# EAGLE library part AY-3-8910 (library shock_own)
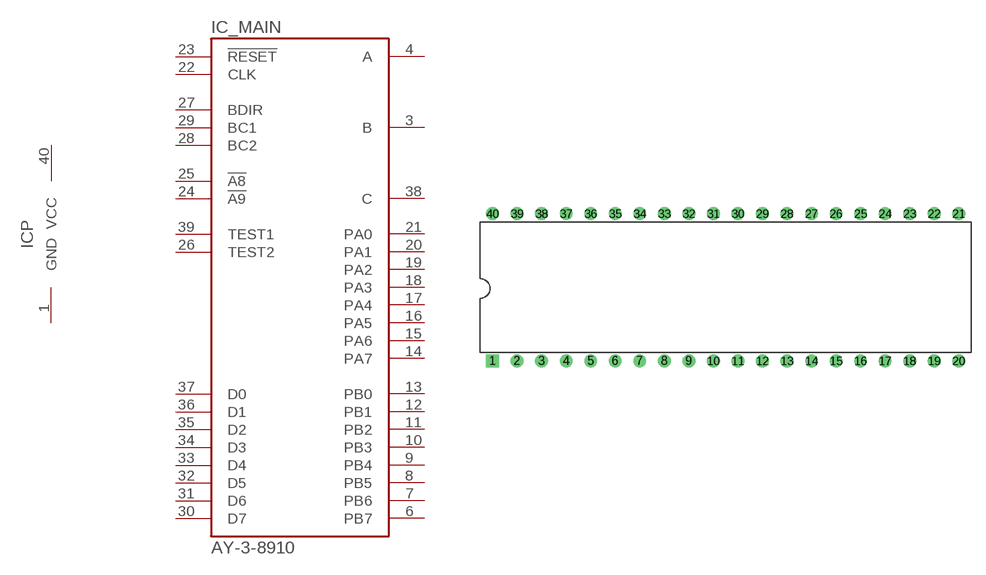
[diagram p1: symbol with the pads of DIP40; footprint DIP40]

Designator prefix IC; gates _MAIN=AY-3-8910 P=PWRGND

## AY-3-8910  [DIP40]
1  P:GND  pwr
3  _MAIN:B  out
4  _MAIN:A  out
6  _MAIN:PB7
7  _MAIN:PB6
8  _MAIN:PB5
9  _MAIN:PB4
10  _MAIN:PB3
11  _MAIN:PB2
12  _MAIN:PB1
13  _MAIN:PB0
14  _MAIN:PA7
15  _MAIN:PA6
16  _MAIN:PA5
17  _MAIN:PA4
18  _MAIN:PA3
19  _MAIN:PA2
20  _MAIN:PA1
21  _MAIN:PA0
22  _MAIN:CLK  in
23  _MAIN:!RESET  in
24  _MAIN:!A9  in
25  _MAIN:!A8  in
26  _MAIN:TEST2  in
27  _MAIN:BDIR  in
28  _MAIN:BC2  in
29  _MAIN:BC1  in
30  _MAIN:D7
31  _MAIN:D6
32  _MAIN:D5
33  _MAIN:D4
34  _MAIN:D3
35  _MAIN:D2
36  _MAIN:D1
37  _MAIN:D0
38  _MAIN:C  out
39  _MAIN:TEST1  in
40  P:VCC  pwr

## Footprint DIP40 (pad centres in mm)
drill 0.813 square: 1 -24.13,-7.62
drill 0.813: 2 -21.59,-7.62; 3 -19.05,-7.62; 4 -16.51,-7.62; 5 -13.97,-7.62; 6 -11.43,-7.62; 7 -8.89,-7.62; 8 -6.35,-7.62; 9 -3.81,-7.62; 10 -1.27,-7.62; 11 1.27,-7.62; 12 3.81,-7.62; 13 6.35,-7.62; 14 8.89,-7.62; 15 11.43,-7.62; 16 13.97,-7.62; 17 16.51,-7.62; 18 19.05,-7.62; 19 21.59,-7.62; 20 24.13,-7.62; 21 24.13,7.62; 22 21.59,7.62; 23 19.05,7.62; 24 16.51,7.62; 25 13.97,7.62; 26 11.43,7.62; 27 8.89,7.62; 28 6.35,7.62; 29 3.81,7.62; 30 1.27,7.62; 31 -1.27,7.62; 32 -3.81,7.62; 33 -6.35,7.62; 34 -8.89,7.62; 35 -11.43,7.62; 36 -13.97,7.62; 37 -16.51,7.62; 38 -19.05,7.62; 39 -21.59,7.62; 40 -24.13,7.62